# Altium schematic symbol library 2019-06-03_19-49-39.SchLib: 2 symbols
Pins are listed as number, name and electrical type; pins without a type are passive.

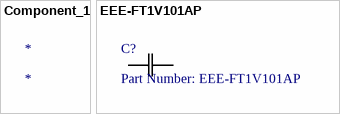
[diagram p0: symbols Component_1 to EEE-FT1V101AP]

## Component_1
designator *

## EEE-FT1V101AP
designator C?, comment Part Number: EEE-FT1V101AP
No Description Available; Vendor: Panasonic; Built_By: EMA_UL_Team; Type: DEV; Manufacturer_Part_Number: EEE-FT1V101AP; Copyright: Copyright (C) 2018 Accelerated Designs. All rights reserved; RefDes: RefDes; Value: Value
footprint CAP_EEFK_D
pins: 1, 2